# EAGLE library part TMS320VC5402PGE100 (library DSPs)
IC DIG SIG PROCESSOR 144-LQFP Manufacturer's datasheet <http://www.ti.com/lit/ds/symlink/tms320vc5402.pdf>
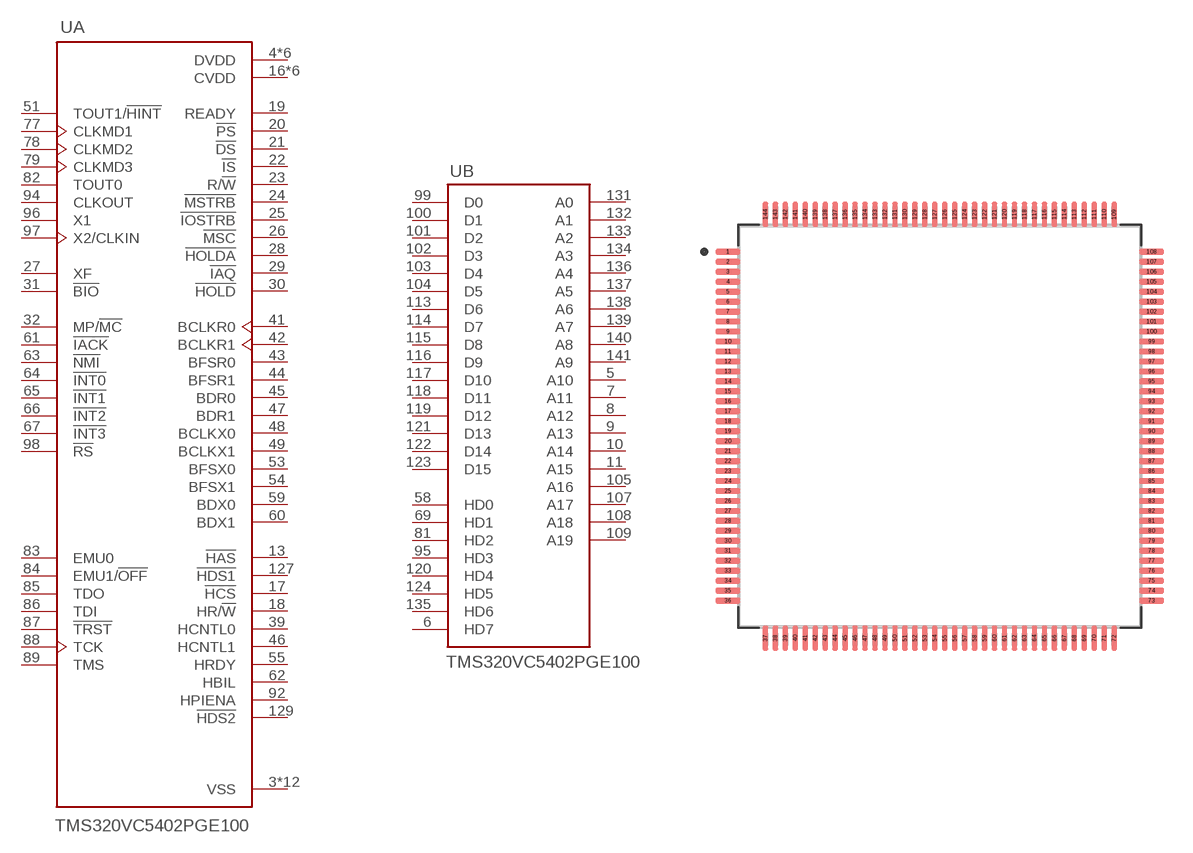
[diagram p12: symbol with the pads of LQFP-144; footprint LQFP-144]

Designator prefix U; gates A=TMS320VC5402PGE100-A B=TMS320VC5402PGE100-B

## TMS320VC5402PGE100 (CREATED_BY: PCBLayout.com; DIGIKEY_PARTNO: 296-10762-ND; MANUFACTURER: Texas Instruments; MPN: TMS320VC5402PGE100; PACKAGE: LQFP-144)  [LQFP-144]
3  A:VSS  pwr
4  A:DVDD  pwr
5  B:A10  out
6  B:HD7
7  B:A11  out
8  B:A12  out
9  B:A13  out
10  B:A14  out
11  B:A15  out
13  A:!HAS  in
14  A:VSS  pwr
16  A:CVDD  pwr
17  A:!HCS  in
18  A:HR/!W  in
19  A:READY  in
20  A:!PS  out
21  A:!DS  out
22  A:!IS  out
23  A:R/!W  out
24  A:!MSTRB  out
25  A:!IOSTRB  out
26  A:!MSC  out
27  A:XF  out
28  A:!HOLDA  out
29  A:!IAQ  out
30  A:!HOLD  in
31  A:!BIO  in
32  A:MP/!MC  in
33  A:DVDD  pwr
34  A:VSS  pwr
39  A:HCNTL0  in
40  A:VSS  pwr
41  A:BCLKR0
42  A:BCLKR1
43  A:BFSR0
44  A:BFSR1
45  A:BDR0  in
46  A:HCNTL1  in
47  A:BDR1  in
48  A:BCLKX0
49  A:BCLKX1
50  A:VSS  pwr
51  A:TOUT1/!HINT!  out
52  A:CVDD  pwr
53  A:BFSX0
54  A:BFSX1
55  A:HRDY  out
56  A:DVDD  pwr
57  A:VSS  pwr
58  B:HD0
59  A:BDX0  out
60  A:BDX1  out
61  A:!IACK  out
62  A:HBIL  in
63  A:!NMI  in
64  A:!INT0  in
65  A:!INT1  in
66  A:!INT2  in
67  A:!INT3  in
68  A:CVDD  pwr
69  B:HD1
70  A:VSS  pwr
75  A:DVDD  pwr
76  A:VSS  pwr
77  A:CLKMD1  in
78  A:CLKMD2  in
79  A:CLKMD3  in
81  B:HD2
82  A:TOUT0  out
83  A:EMU0
84  A:EMU1/!OFF
85  A:TDO  out
86  A:TDI  in
87  A:!TRST  in
88  A:TCK  in
89  A:TMS  in
91  A:CVDD  pwr
92  A:HPIENA  in
93  A:VSS  pwr
94  A:CLKOUT  out
95  B:HD3
96  A:X1  out
97  A:X2/CLKIN  in
98  A:!RS  in
99  B:D0
100  B:D1
101  B:D2
102  B:D3
103  B:D4
104  B:D5
105  B:A16  out
106  A:VSS  pwr
107  B:A17  out
108  B:A18  out
109  B:A19  out
111  A:VSS  pwr
112  A:DVDD  pwr
113  B:D6
114  B:D7
115  B:D8
116  B:D9
117  B:D10
118  B:D11
119  B:D12
120  B:HD4
121  B:D13
122  B:D14
123  B:D15
124  B:HD5
125  A:CVDD  pwr
127  A:!HDS1  in
128  A:VSS  pwr
129  A:!HDS2  in
130  A:DVDD  pwr
131  B:A0  out
132  B:A1  out
133  B:A2  out
134  B:A3  out
135  B:HD6
136  B:A4  out
137  B:A5  out
138  B:A6  out
139  B:A7  out
140  B:A8  out
141  B:A9  out
142  A:CVDD  pwr

## Footprint LQFP-144 (pad centres in mm)
smd 1.26 x 0.3: 1 -10.63,8.75; 2 -10.63,8.25; 3 -10.63,7.75; 4 -10.63,7.25; 5 -10.63,6.75; 6 -10.63,6.25; 7 -10.63,5.75; 8 -10.63,5.25; 9 -10.63,4.75; 10 -10.63,4.25; 11 -10.63,3.75; 12 -10.63,3.25; 13 -10.63,2.75; 14 -10.63,2.25; 15 -10.63,1.75; 16 -10.63,1.25; 17 -10.63,0.75; 18 -10.63,0.25; 19 -10.63,-0.25; 20 -10.63,-0.75; 21 -10.63,-1.25; 22 -10.63,-1.75; 23 -10.63,-2.25; 24 -10.63,-2.75; 25 -10.63,-3.25; 26 -10.63,-3.75; 27 -10.63,-4.25; 28 -10.63,-4.75; 29 -10.63,-5.25; 30 -10.63,-5.75; 31 -10.63,-6.25; 32 -10.63,-6.75; 33 -10.63,-7.25; 34 -10.63,-7.75; 35 -10.63,-8.25; 36 -10.63,-8.75; 73 10.63,-8.75; 74 10.63,-8.25; 75 10.63,-7.75; 76 10.63,-7.25; 77 10.63,-6.75; 78 10.63,-6.25; 79 10.63,-5.75; 80 10.63,-5.25; 81 10.63,-4.75; 82 10.63,-4.25; 83 10.63,-3.75; 84 10.63,-3.25; 85 10.63,-2.75; 86 10.63,-2.25; 87 10.63,-1.75; 88 10.63,-1.25; 89 10.63,-0.75; 90 10.63,-0.25; 91 10.63,0.25; 92 10.63,0.75; 93 10.63,1.25; 94 10.63,1.75; 95 10.63,2.25; 96 10.63,2.75; 97 10.63,3.25; 98 10.63,3.75; 99 10.63,4.25; 100 10.63,4.75; 101 10.63,5.25; 102 10.63,5.75; 103 10.63,6.25; 104 10.63,6.75; 105 10.63,7.25; 106 10.63,7.75; 107 10.63,8.25; 108 10.63,8.75
smd 0.3 x 1.26: 37 -8.75,-10.63; 38 -8.25,-10.63; 39 -7.75,-10.63; 40 -7.25,-10.63; 41 -6.75,-10.63; 42 -6.25,-10.63; 43 -5.75,-10.63; 44 -5.25,-10.63; 45 -4.75,-10.63; 46 -4.25,-10.63; 47 -3.75,-10.63; 48 -3.25,-10.63; 49 -2.75,-10.63; 50 -2.25,-10.63; 51 -1.75,-10.63; 52 -1.25,-10.63; 53 -0.75,-10.63; 54 -0.25,-10.63; 55 0.25,-10.63; 56 0.75,-10.63; 57 1.25,-10.63; 58 1.75,-10.63; 59 2.25,-10.63; 60 2.75,-10.63; 61 3.25,-10.63; 62 3.75,-10.63; 63 4.25,-10.63; 64 4.75,-10.63; 65 5.25,-10.63; 66 5.75,-10.63; 67 6.25,-10.63; 68 6.75,-10.63; 69 7.25,-10.63; 70 7.75,-10.63; 71 8.25,-10.63; 72 8.75,-10.63; 109 8.75,10.63; 110 8.25,10.63; 111 7.75,10.63; 112 7.25,10.63; 113 6.75,10.63; 114 6.25,10.63; 115 5.75,10.63; 116 5.25,10.63; 117 4.75,10.63; 118 4.25,10.63; 119 3.75,10.63; 120 3.25,10.63; 121 2.75,10.63; 122 2.25,10.63; 123 1.75,10.63; 124 1.25,10.63; 125 0.75,10.63; 126 0.25,10.63; 127 -0.25,10.63; 128 -0.75,10.63; 129 -1.25,10.63; 130 -1.75,10.63; 131 -2.25,10.63; 132 -2.75,10.63; 133 -3.25,10.63; 134 -3.75,10.63; 135 -4.25,10.63; 136 -4.75,10.63; 137 -5.25,10.63; 138 -5.75,10.63; 139 -6.25,10.63; 140 -6.75,10.63; 141 -7.25,10.63; 142 -7.75,10.63; 143 -8.25,10.63; 144 -8.75,10.63